# EAGLE library part LM3886 (library PP_AnalogIC)
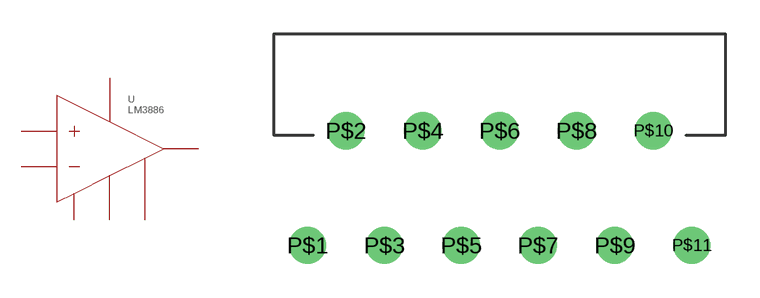
[diagram p8: symbol with the pads of LM388TF-TO-220-11; footprint LM388TF-TO-220-11]

Designator prefix U

## LM3886 (POPULATE: 1)  [LM388TF-TO-220-11]
P$1  1,5
P$3  3
P$4  4
P$5  1,5
P$7  7
P$8  8
P$9  9
P$10  10

## Footprint LM388TF-TO-220-11 (pad centres in mm)
drill 1.1: P$1 -8.509,0; P$2 -6.807,5.08; P$3 -5.105,0; P$4 -3.404,5.08; P$5 -1.702,0; P$6 0,5.08; P$7 1.702,0; P$8 3.404,5.08; P$9 5.105,0; P$10 6.807,5.08; P$11 8.509,0